# Altium schematic symbol library EMG_v5.SchLib: 25 symbols
Pins are listed as number, name and electrical type; pins without a type are passive.

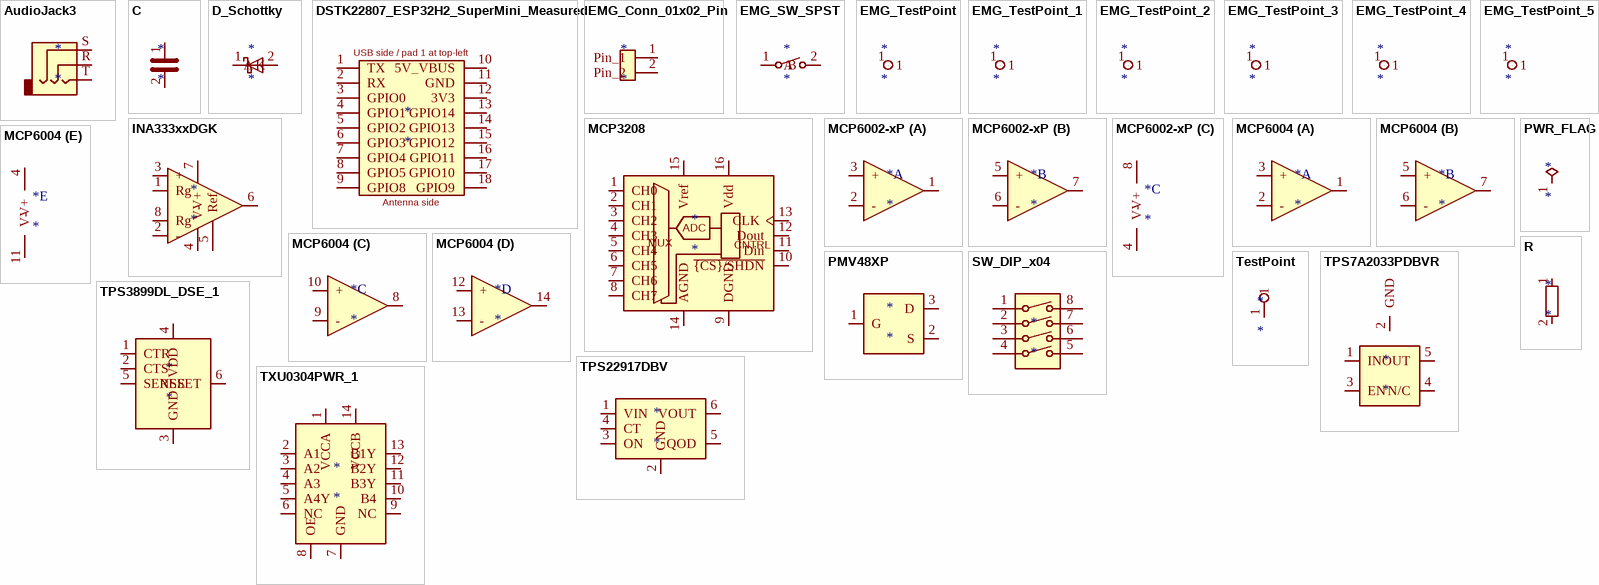
[diagram p0: symbols AudioJack3 to TXU0304PWR_1]

## AudioJack3
designator *
pins: R, S, T

## C
designator *
pins: 1, 2

## D_Schottky
designator *
pins: 1 K, 2 A

## DSTK22807_ESP32H2_SuperMini_Measured
designator *
pins: 1 TX, 2 RX, 3 GPIO0, 4 GPIO1, 5 GPIO2, 6 GPIO3, 7 GPIO4, 8 GPIO5, 9 GPIO8, 10 5V_VBUS, 11 GND, 12 3V3, 13 GPIO14, 14 GPIO13, 15 GPIO12, 16 GPIO11, 17 GPIO10, 18 GPIO9
text: USB side / pad 1 at top-left; Antenna side

## EMG_Conn_01x02_Pin
designator *
pins: 1 Pin_1, 2 Pin_2

## EMG_SW_SPST
designator *
pins: 1 A, 2 B

## EMG_TestPoint
designator *
pins: 1

## EMG_TestPoint_1
designator *
pins: 1

## EMG_TestPoint_2
designator *
pins: 1

## EMG_TestPoint_3
designator *
pins: 1

## EMG_TestPoint_4
designator *
pins: 1

## EMG_TestPoint_5
designator *
pins: 1

## INA333xxDGK
designator *
pins: 1 Rg, 2 -, 3 +, 4 V-, 5 Ref, 6, 7 V+, 8 Rg

## MCP3208
designator *
pins: 1 CH0, 2 CH1, 3 CH2, 4 CH3, 5 CH4, 6 CH5, 7 CH6, 8 CH7, 9 DGND, 10 ~{{CS}/SHDN}, 11 Din, 12 Dout, 13 CLK, 14 AGND, 15 Vref, 16 Vdd
text: ADC; MUX; CNTRL

## MCP6002-xP
designator *
part A pins: 1, 2 -, 3 +
part B pins: 5 +, 6 -, 7
part C pins: 4 V-, 8 V+

## MCP6004
designator *
part A pins: 1, 2 -, 3 +
part B pins: 5 +, 6 -, 7
part C pins: 8, 9 -, 10 +
part D pins: 12 +, 13 -, 14
part E pins: 4 V+, 11 V-

## PMV48XP
designator *
pins: 1 G, 2 S, 3 D

## PWR_FLAG
designator *  (graphical)
pins: 1

## R
designator *
pins: 1, 2

## SW_DIP_x04
designator *
pins: 1, 2, 3, 4, 5, 6, 7, 8

## TestPoint
designator *
pins: 1

## TPS7A2033PDBVR
designator *
pins: 1 IN, 2 GND, 3 EN, 4 N/C, 5 OUT

## TPS3899DL_DSE_1
designator *
pins: 1 CTR, 2 CTS, 3 GND, 4 VDD, 5 SENSE, 6 RESET

## TPS22917DBV
designator *
pins: 1 VIN, 2 GND, 3 ON, 4 CT, 5 QOD, 6 VOUT

## TXU0304PWR_1
designator *
pins: 1 VCCA, 2 A1, 3 A2, 4 A3, 5 A4Y, 6 NC, 7 GND, 8 OE, 9 NC, 10 B4, 11 B3Y, 12 B2Y, 13 B1Y, 14 VCCB